# Altium schematic symbol library RSCSK2243R3D02008U.SchLib: 1 symbol
Pins are listed as number, name and electrical type; pins without a type are passive.

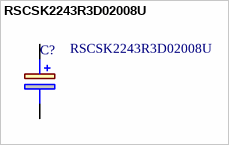
[diagram p0: symbol RSCSK2243R3D02008U]

## RSCSK2243R3D02008U
designator C?
220 mF (EDLC) Supercapacitor 3.3 V Coin, Wide Terminals - Opposite Sides 200Ohm 1000 Hrs @ 60C; Manufacturer_Name: Elna; Geometry.Height: 3mm; Mouser Part Number: 555-DSK3R3H224U-HL; Mouser Price/Stock: https://www.mouser.co.uk/ProductDetail/Elna/RSCSK2243R3D02008U?qs=4ASt3YYao0VaMSApaTZjpQ%3D%3D; Manufacturer_Part_Number: RSCSK2243R3D02008U; Datasheet Link: https://www1.futureelectronics.com/doc/ELNA/RSCSK2243R3D02008U.pdf
footprint RSCSK2243R3D02008U
pins: 1 +, 2 -